# EAGLE library part TCAN332DR (library TCAN332DR)
TEXAS INSTRUMENTS - TCAN332DR - CAN TRANSCEIVER, 5MBPS, SOIC-8 Source: Datasheet <http://www.ti.com/lit/ds/symlink/tcan332.pdf>
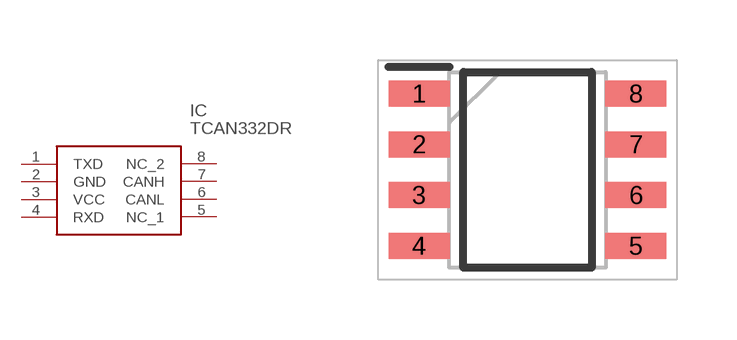
[diagram p0: symbol with the pads of SOIC127P600X175-8N; footprint SOIC127P600X175-8N]

Designator prefix IC

## TCAN332DR (Arrow_Part_Number: TCAN332DR; Arrow_Price-Stock: https://www.arrow.com/en/products/tcan332dr/texas-instruments?region=nac; Description: TEXAS INSTRUMENTS - TCAN332DR - CAN TRANSCEIVER, 5MBPS, SOIC-8; Height: 1.75mm; Manufacturer_Name: Texas Instruments; Manufacturer_Part_Number: TCAN332DR; Mouser_Part_Number: 595-TCAN332DR; Mouser_Price-Stock: https://www.mouser.co.uk/ProductDetail/Texas-Instruments/TCAN332DR?qs=n%252BTO0c4TDSYIUeM9WmVMtA%3D%3D)  [SOIC127P600X175-8N]
1  TXD
2  GND
3  VCC
4  RXD
5  NC_1
6  CANL
7  CANH
8  NC_2

## Footprint SOIC127P600X175-8N (pad centres in mm)
D (R-PDSO-G8)
smd 1.525 x 0.65: 1 -2.712,1.905; 2 -2.712,0.635; 3 -2.712,-0.635; 4 -2.712,-1.905; 5 2.712,-1.905; 6 2.712,-0.635; 7 2.712,0.635; 8 2.712,1.905